# EAGLE library part ATMEGA328P-MN (library ATMEGA328P-MN)
MCU 8-bit ATmega AVR RISC 32KB Flash Atmel ATMEGA328P-MN, 8bit AVR Microcontroller, 20MHz, 32 kB Flash, 32-Pin MLF Source: Datasheet
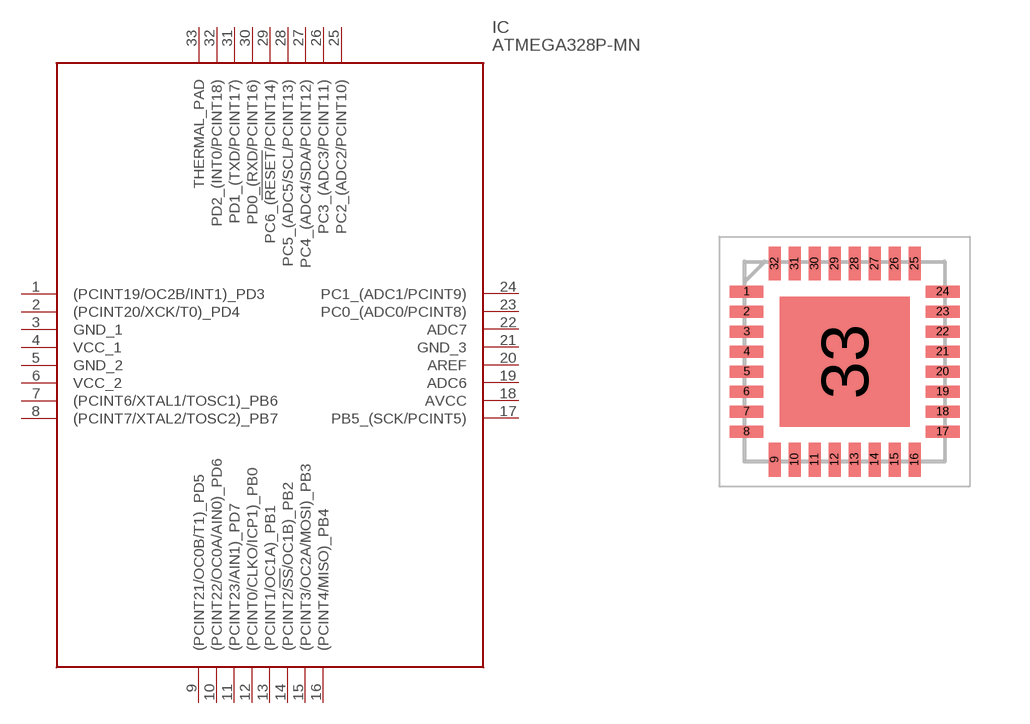
[diagram p0: symbol with the pads of QFN50P500X500X100-33N; footprint QFN50P500X500X100-33N]

Designator prefix IC

## ATMEGA328P-MN (Description: MCU 8-bit ATmega AVR RISC 32KB Flash Atmel ATMEGA328P-MN, 8bit AVR Microcontroller, 20MHz, 32 kB Flash, 32-Pin MLF; Height: 1mm; Manufacturer_Name: Microchip; Manufacturer_Part_Number: ATMEGA328P-MN; Mouser_Part_Number: 556-ATMEGA328P-MN; Mouser_Price-Stock: https://www.mouser.co.uk/ProductDetail/Microchip-Technology/ATMEGA328P-MN?qs=6Dg1WZIWLC6Zn%2FVozm%252BEUw%3D%3D)  [QFN50P500X500X100-33N]
1  (PCINT19/OC2B/INT1)_PD3
2  (PCINT20/XCK/T0)_PD4
3  GND_1
4  VCC_1
5  GND_2
6  VCC_2
7  (PCINT6/XTAL1/TOSC1)_PB6
8  (PCINT7/XTAL2/TOSC2)_PB7
9  (PCINT21/OC0B/T1)_PD5
10  (PCINT22/OC0A/AIN0)_PD6
11  (PCINT23/AIN1)_PD7
12  (PCINT0/CLKO/ICP1)_PB0
13  (PCINT1/OC1A)_PB1
14  (PCINT2/!SS!/OC1B)_PB2
15  (PCINT3/OC2A/MOSI)_PB3
16  (PCINT4/MISO)_PB4
17  PB5_(SCK/PCINT5)
18  AVCC
19  ADC6
20  AREF
21  GND_3
22  ADC7
23  PC0_(ADC0/PCINT8)
24  PC1_(ADC1/PCINT9)
25  PC2_(ADC2/PCINT10)
26  PC3_(ADC3/PCINT11)
27  PC4_(ADC4/SDA/PCINT12)
28  PC5_(ADC5/SCL/PCINT13)
29  PC6_(!RESET!/PCINT14)
30  PD0_(RXD/PCINT16)
31  PD1_(TXD/PCINT17)
32  PD2_(INT0/PCINT18)
33  THERMAL_PAD

## Footprint QFN50P500X500X100-33N (pad centres in mm)
32M1-A-ren1
smd 0.85 x 0.3: 1 -2.45,1.75; 2 -2.45,1.25; 3 -2.45,0.75; 4 -2.45,0.25; 5 -2.45,-0.25; 6 -2.45,-0.75; 7 -2.45,-1.25; 8 -2.45,-1.75; 17 2.45,-1.75; 18 2.45,-1.25; 19 2.45,-0.75; 20 2.45,-0.25; 21 2.45,0.25; 22 2.45,0.75; 23 2.45,1.25; 24 2.45,1.75
smd 0.3 x 0.85: 9 -1.75,-2.45; 10 -1.25,-2.45; 11 -0.75,-2.45; 12 -0.25,-2.45; 13 0.25,-2.45; 14 0.75,-2.45; 15 1.25,-2.45; 16 1.75,-2.45; 25 1.75,2.45; 26 1.25,2.45; 27 0.75,2.45; 28 0.25,2.45; 29 -0.25,2.45; 30 -0.75,2.45; 31 -1.25,2.45; 32 -1.75,2.45
smd 3.25 x 3.25: 33 0,0